# EAGLE library part LM3224 (library national-semi)
DC/DC CONVERTOR 615kHz/1.25MHz Step-up PWM
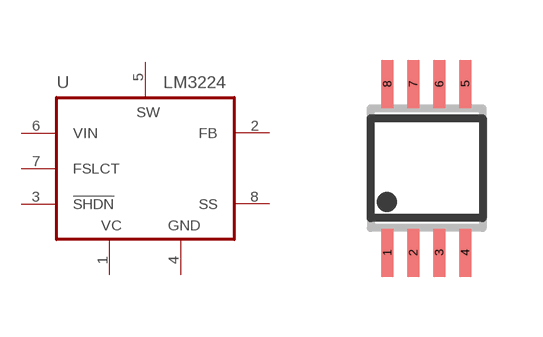
[diagram p16: symbol with the pads of MSOP08; footprint MSOP08]

Designator prefix U

## LM3224  [MSOP08]
1  VC  pas
2  FB  in
3  !SHDN!  pas
4  GND  pwr
5  SW  pas
6  VIN  in
7  FSLCT  in
8  SS  pas

## Footprint MSOP08 (pad centres in mm)
Mini Small Outline Package
smd 0.3 x 1.2: 1 -0.976,-2.113; 2 -0.326,-2.113; 3 0.324,-2.113; 4 0.974,-2.113; 5 0.974,2.112; 6 0.324,2.112; 7 -0.326,2.112; 8 -0.976,2.112